# EAGLE library part DIPSW-03 (library gost_buttons_switches)
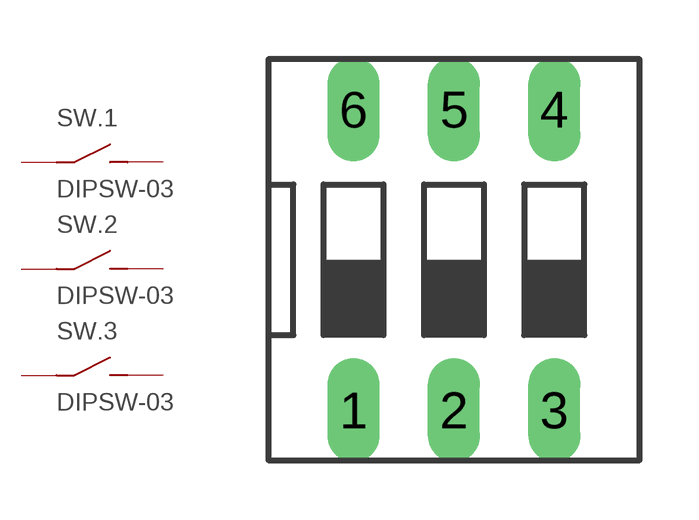
[diagram p1: symbol with the pads of DS-03; footprint DS-03]

Designator prefix SW; gates .1=SW2 .2=SW2 .3=SW2

## DIPSW-03  [DS-03]
1  .1:A
2  .2:A
3  .3:A
4  .3:B
5  .2:B
6  .1:B

## Footprint DS-03 (pad centres in mm)
DIL/CODE SWITCH Mors distributor Buerklin, 17G552
drill 0.813 long: 1 -2.54,-3.81; 2 0,-3.81; 3 2.54,-3.81; 4 2.54,3.81; 5 0,3.81; 6 -2.54,3.81